# EAGLE library part MS5534 (library ms5534)
MS5534C Barometer Module 3-wire serial interface 1 system clock line (32.768 kHz) 10 - 1100 mbar absolute pressure range Supply voltage 2.2 V to 3.6 V
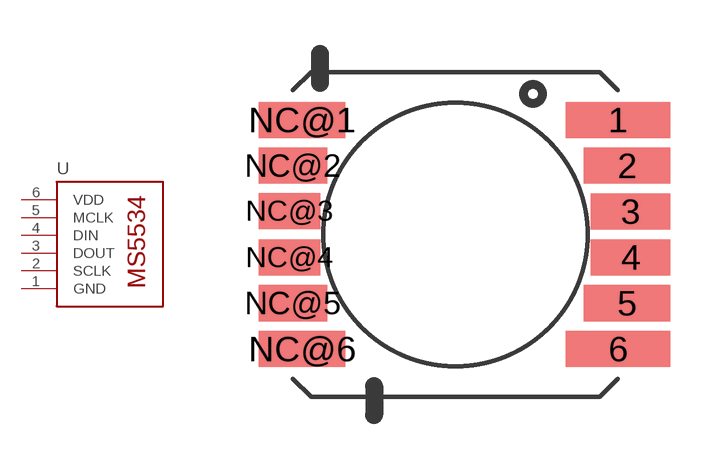
[diagram p0: symbol with the pads of MS5534C; footprint MS5534C]

Designator prefix -

## MS5534  [MS5534C]
1  GND  pwr
2  SCLK  in
3  DOUT  out
4  DIN  in
5  MCLK  in
6  VDD  pwr

## Footprint MS5534C (pad centres in mm)
MS5534C Barometer Module 3-wire serial interface 1 system clock line (32.768 kHz) 10 - 1100 mbar absolute pressure range Supply voltage 2.2 V to 3.6 V
smd 2.9 x 1: 1 4.5,3.175; 6 4.5,-3.175
smd 2.4 x 1: 2 4.75,1.905; 5 4.75,-1.905; NC@1 -4.25,3.175; NC@6 -4.25,-3.175
smd 2.2 x 1: 3 4.85,0.635; 4 4.85,-0.635
smd 1.9 x 1: NC@2 -4.5,1.905; NC@5 -4.5,-1.905
smd 1.7 x 1: NC@3 -4.6,0.653; NC@4 -4.6,-0.635
hole 7.3 at 0,0